# Altium footprint library MAX_MAX15053EWL_9WLP_W91E1Z+1.PcbLib: 1 footprints
Each footprint in its own frame and in the unit in brackets; x right, y up, seen from the top. Pads: shape width x height; smd on the part's side, far side on the other; paste and mask are expansions set on the pad; w line width, h text height; cw(c..) or ccw(c..) is an arc to the next point about the centre after c.
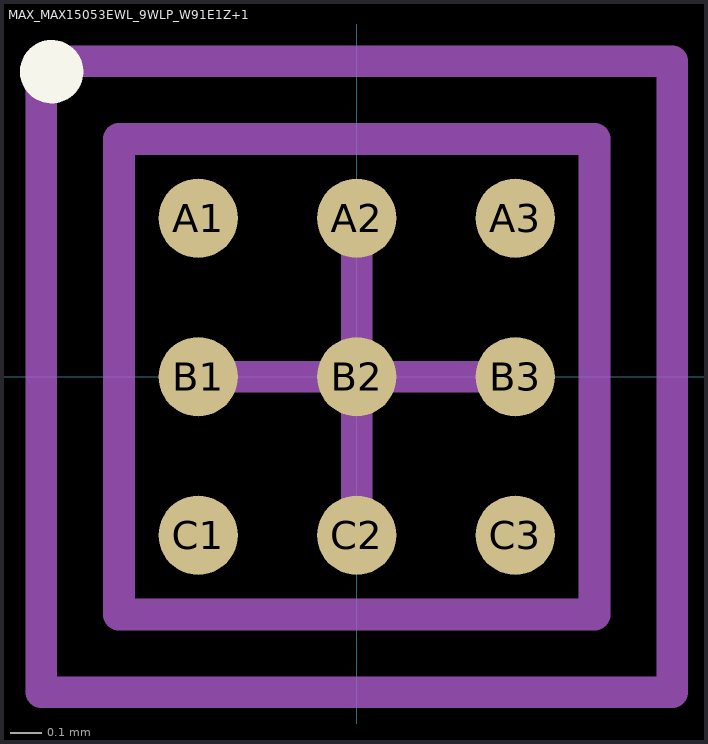
[diagram p0: the footprint, top view; thin cyan lines are the x and y axes]

## MAX_MAX15053EWL_9WLP_W91E1Z+1 [mm] "MAX15053EWL, 2A, Current-Mode Synchronous, Step-Down reg, WLP9"
height 0.69
pads (9):
  round 0.25 smd: A1(-0.5,0.5) A2(0,0.5) A3(0.5,0.5) B1(-0.5,0) B2(0,0) B3(0.5,0) C1(-0.5,-0.5) C2(0,-0.5) C3(0.5,-0.5)
Top Overlay:
  circle w0.1: c-0.962,0.962 r0.05
Mechanical 13:
  lines w0.1: -0.75,-0.75 -0.75,0.75 0.75,0.75 0.75,-0.75 -0.75,-0.75
Mechanical 15:
  lines w0.1: -0.5,0 0.5,0 ; 0,-0.5 0,0.5 ; -0.995,-0.995 -0.995,0.995 0.995,0.995 0.995,-0.995 -0.995,-0.995
3D body: height 0.69, standoff 0.21, extent -0.75,-0.75 0.75,0.75